# Altium schematic symbol library cyusb3014.SchLib: 8 symbols
Pins are listed as number, name and electrical type; pins without a type are passive.

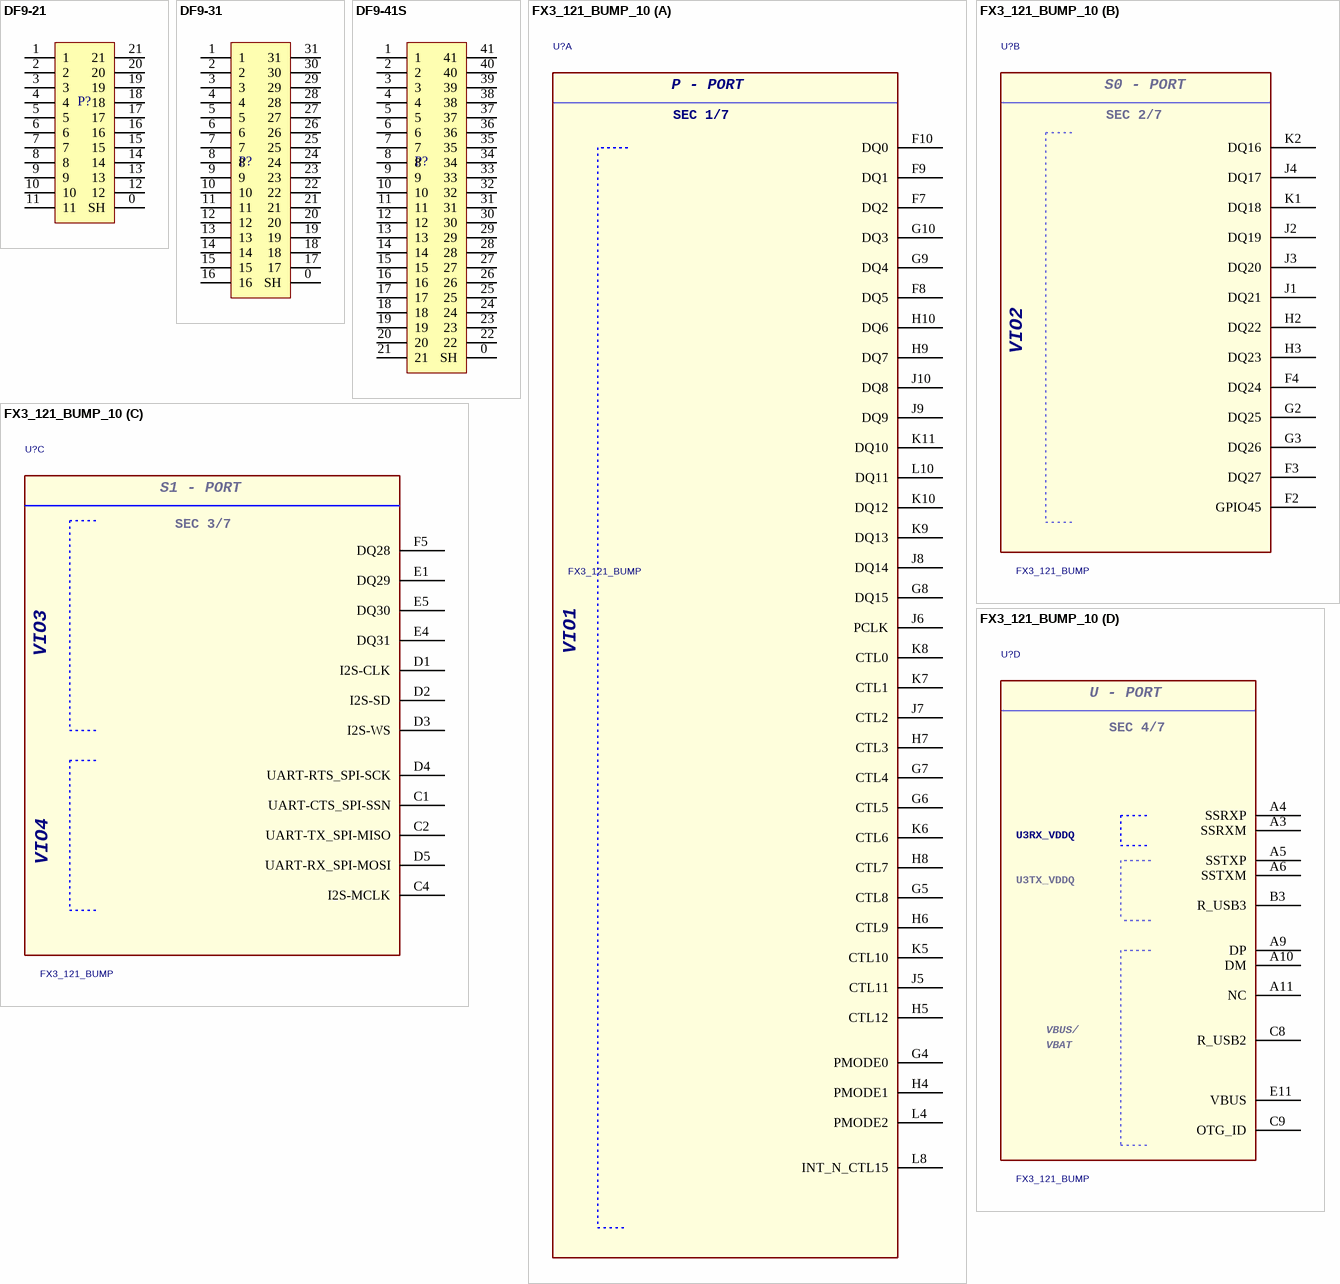
[diagram p0: symbols DF9-21 to FX3_121_BUMP_10]

## DF9-21
designator P?  (value not drawn)
footprint DF9-21P
footprint DF9-21S
pins: 0 SH, 1, 2, 3, 4, 5, 6, 7, 8, 9, 10, 11, 12, 13, 14, 15, 16, 17, 18, 19, 20, 21

## DF9-31
designator P?  (value not drawn)
footprint DF9-31P
footprint DF9-31S
pins: 0 SH, 1, 2, 3, 4, 5, 6, 7, 8, 9, 10, 11, 12, 13, 14, 15, 16, 17, 18, 19, 20, 21, 22, 23, 24, 25, 26, 27, 28, 29, 30, 31

## DF9-41S
designator P?  (value not drawn)
footprint DF9-41S
pins: 0 SH, 1, 2, 3, 4, 5, 6, 7, 8, 9, 10, 11, 12, 13, 14, 15, 16, 17, 18, 19, 20, 21, 22, 23, 24, 25, 26, 27, 28, 29, 30, 31, 32, 33, 34, 35, 36, 37, 38, 39, 40, 41

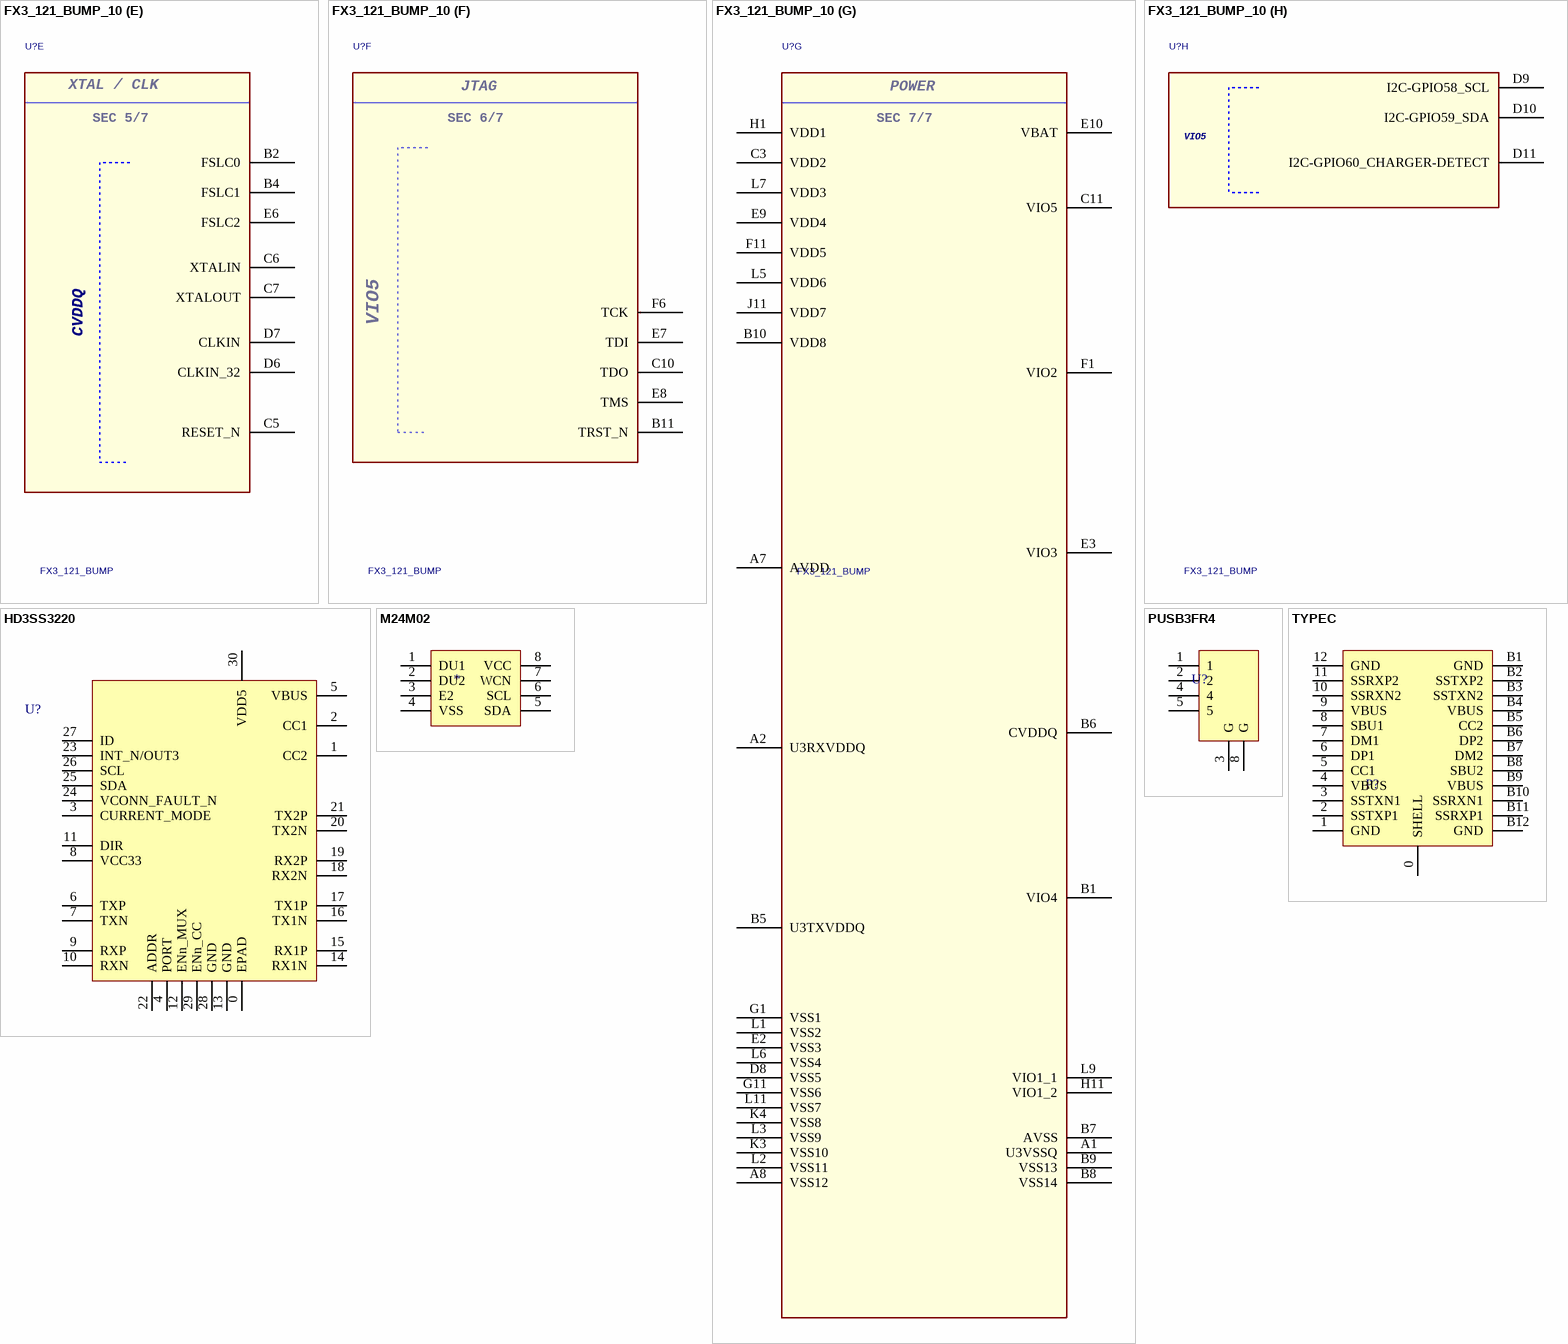
[diagram p1: symbols FX3_121_BUMP_10 to TYPEC]

## FX3_121_BUMP_10
designator U?, comment FX3_121_BUMP
FX3; Manufacturer: Cypress
footprint FX3_121_BUMP
part A pins: F7 DQ2, F8 DQ5, F9 DQ1, F10 DQ0, G4 PMODE0, G5 CTL8, G6 CTL5, G7 CTL4, G8 DQ15, G9 DQ4, G10 DQ3, H4 PMODE1, H5 CTL12, H6 CTL9, H7 CTL3, H8 CTL7, H9 DQ7, H10 DQ6, J5 CTL11, J6 PCLK, J7 CTL2, J8 DQ14, J9 DQ9, J10 DQ8, K5 CTL10, K6 CTL6, K7 CTL1, K8 CTL0, K9 DQ13, K10 DQ12, K11 DQ10, L4 PMODE2, L8 INT_N_CTL15, L10 DQ11
part B pins: F2 GPIO45, F3 DQ27, F4 DQ24, G2 DQ25, G3 DQ26, H2 DQ22, H3 DQ23, J1 DQ21, J2 DQ19, J3 DQ20, J4 DQ17, K1 DQ18, K2 DQ16
part C pins: C1 UART-CTS_SPI-SSN, C2 UART-TX_SPI-MISO, C4 I2S-MCLK, D1 I2S-CLK, D2 I2S-SD, D3 I2S-WS, D4 UART-RTS_SPI-SCK, D5 UART-RX_SPI-MOSI, E1 DQ29, E4 DQ31, E5 DQ30, F5 DQ28
part D pins: A3 SSRXM, A4 SSRXP, A5 SSTXP, A6 SSTXM, A9 DP, A10 DM, A11 NC, B3 R_USB3, C8 R_USB2, C9 OTG_ID, E11 VBUS
part E pins: B2 FSLC0, B4 FSLC1, C5 RESET_N, C6 XTALIN, C7 XTALOUT, D6 CLKIN_32, D7 CLKIN, E6 FSLC2
part F pins: B11 TRST_N, C10 TDO, E7 TDI, E8 TMS, F6 TCK
part G pins: A1 U3VSSQ, A2 U3RXVDDQ, A7 AVDD, A8 VSS12, B1 VIO4, B5 U3TXVDDQ, B6 CVDDQ, B7 AVSS, B8 VSS14, B9 VSS13, B10 VDD8, C3 VDD2, C11 VIO5, D8 VSS5, E2 VSS3, E3 VIO3, E9 VDD4, E10 VBAT, F1 VIO2, F11 VDD5, G1 VSS1, G11 VSS6, H1 VDD1, H11 VIO1_2, J11 VDD7, K3 VSS10, K4 VSS8, L1 VSS2, L2 VSS11, L3 VSS9, L5 VDD6, L6 VSS4, L7 VDD3, L9 VIO1_1, L11 VSS7
part H pins: D9 I2C-GPIO58_SCL, D10 I2C-GPIO59_SDA, D11 I2C-GPIO60_CHARGER-DETECT
part A text: P - PORT; SEC 1/7; VIO1
part B text: S0 - PORT; SEC 2/7
part C text: S1 - PORT; SEC 3/7
part D text: U - PORT; SEC 4/7; U3RX_VDDQ; U3TX_VDDQ; VBUS/
part E text: XTAL / CLK; SEC 5/7
part F text: JTAG; SEC 6/7
part G text: POWER; SEC 7/7

## HD3SS3220
designator U?  (value not drawn)
footprint HD3SS3220
pins: 0 EPAD, 1 CC2, 2 CC1, 3 CURRENT_MODE, 4 PORT, 5 VBUS, 6 TXP, 7 TXN, 8 VCC33, 9 RXP, 10 RXN, 11 DIR, 12 ENn_MUX, 13 GND, 14 RX1N, 15 RX1P, 16 TX1N, 17 TX1P, 18 RX2N, 19 RX2P, 20 TX2N, 21 TX2P, 22 ADDR, 23 INT_N/OUT3, 24 VCONN_FAULT_N, 25 SDA, 26 SCL, 27 ID, 28 GND, 29 ENn_CC, 30 VDD5

## M24M02
designator *  (value not drawn)
footprint SO8
pins: 1 DU1, 2 DU2, 3 E2, 4 VSS, 5 SDA, 6 SCL, 7 WCN, 8 VCC

## PUSB3FR4
designator U?  (value not drawn)
footprint PUSB3FR4
pins: 1, 2, 3 G, 4, 5, 8 G

## TYPEC
designator P?  (value not drawn)
footprint TYPEC
pins: 0 SHELL, 1 GND, 2 SSTXP1, 3 SSTXN1, 4 VBUS, 5 CC1, 6 DP1, 7 DM1, 8 SBU1, 9 VBUS, 10 SSRXN2, 11 SSRXP2, 12 GND, B1 GND, B2 SSTXP2, B3 SSTXN2, B4 VBUS, B5 CC2, B6 DP2, B7 DM2, B8 SBU2, B9 VBUS, B10 SSRXN1, B11 SSRXP1, B12 GND